# EAGLE library part SIM900D (library sim900)
SIM900D is a quad-band GSM/GPRS engine that works on frequencies GSM 850MHz, EGSM 900MHz, DCS 1800MHz and PCS 1900MHz. SIM900D features GPRS multi-slot class 10/class 8 (optional) and supports the GPRS coding schemes CS-1, CS-2, CS-3 and CS-4.
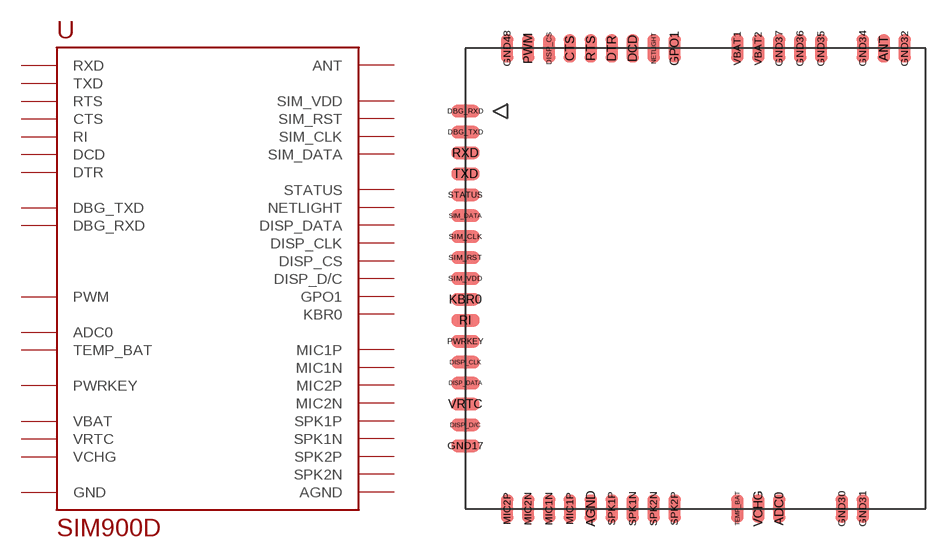
[diagram p1: symbol with the pads of SIM900D; footprint SIM900D]

Designator prefix U

## SIM900D  [SIM900D]
ADC0  ADC0  in
AGND  AGND  pwr
ANT  ANT
CTS  CTS  out
DBG_RXD  DBG_RXD  in
DBG_TXD  DBG_TXD  out
DCD  DCD  out
DISP_CLK  DISP_CLK  out
DISP_CS  DISP_CS  out
DISP_D/C  DISP_D/C  out
DISP_DATA  DISP_DATA
DTR  DTR  in
GND17  GND  pwr
GND30  GND  pwr
GND31  GND  pwr
GND32  GND  pwr
GND34  GND  pwr
GND35  GND  pwr
GND36  GND  pwr
GND37  GND  pwr
GND48  GND  pwr
GPO1  GPO1  out
KBR0  KBR0
MIC1N  MIC1N  in
MIC1P  MIC1P  in
MIC2N  MIC2N  in
MIC2P  MIC2P  in
NETLIGHT  NETLIGHT  out
PWM  PWM  out
PWRKEY  PWRKEY  in
RI  RI  out
RTS  RTS  in
RXD  RXD  in
SIM_CLK  SIM_CLK  out
SIM_DATA  SIM_DATA
SIM_RST  SIM_RST  out
SIM_VDD  SIM_VDD  out
SPK1N  SPK1N  out
SPK1P  SPK1P  out
SPK2N  SPK2N  out
SPK2P  SPK2P  out
STATUS  STATUS  out
TEMP_BAT  TEMP_BAT  in
TXD  TXD  out
VBAT1  VBAT  in
VBAT2  VBAT  in
VCHG  VCHG  in
VRTC  VRTC

## Footprint SIM900D (pad centres in mm)
SIM900D Footprint.
smd 0.9 x 2: ADC0 22.5,0; AGND 9,0; ANT 30,33; CTS 7.5,33; DCD 12,33; DISP_CS 6,33; DTR 10.5,33; GND30 27,0; GND31 28.5,0; GND32 31.5,33; GND34 28.5,33; GND35 25.5,33; GND36 24,33; GND37 22.5,33; GND48 3,33; GPO1 15,33; MIC1N 6,0; MIC1P 7.5,0; MIC2N 4.5,0; MIC2P 3,0; NETLIGHT 13.5,33; PWM 4.5,33; RTS 9,33; SPK1N 12,0; SPK1P 10.5,0; SPK2N 13.5,0; SPK2P 15,0; TEMP_BAT 19.5,0; VBAT1 19.5,33; VBAT2 21,33; VCHG 21,0
smd 2 x 0.9: DBG_RXD 0,28.5; DBG_TXD 0,27; DISP_CLK 0,10.5; DISP_D/C 0,6; DISP_DATA 0,9; GND17 0,4.5; KBR0 0,15; PWRKEY 0,12; RI 0,13.5; RXD 0,25.5; SIM_CLK 0,19.5; SIM_DATA 0,21; SIM_RST 0,18; SIM_VDD 0,16.5; STATUS 0,22.5; TXD 0,24; VRTC 0,7.5